# EAGLE library part LAN8700(I) (library smsc)
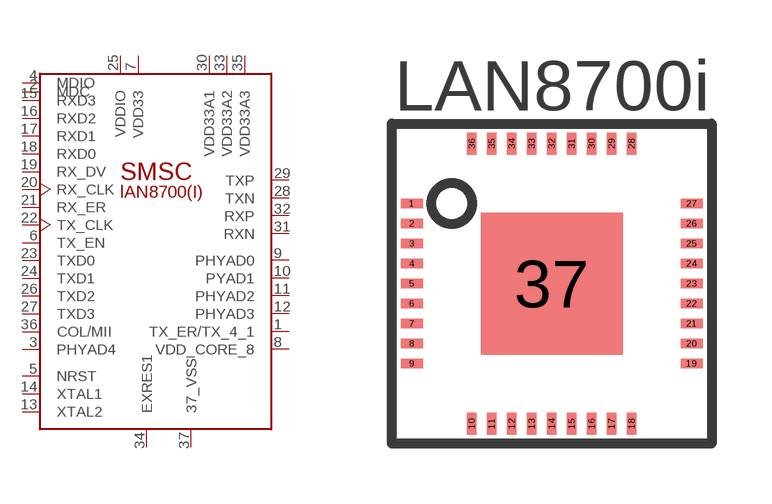
[diagram p1: symbol with the pads of QFN36; footprint QFN36]

Designator prefix -

## LAN8700(I)  [QFN36]
1  TX_ER/TX_4_1
2  MDC  in
3  PHYAD4
4  MDIO
5  NRST  in
6  TX_EN  in
7  VDD33  pwr
8  VDD_CORE_8
9  PHYAD0
10  PYAD1
11  PHYAD2
12  PHYAD3
13  XTAL2  out
14  XTAL1
15  RXD3
16  RXD2
17  RXD1
18  RXD0
19  RX_DV  out
20  RX_CLK
21  RX_ER  out
22  TX_CLK  out
23  TXD0  in
24  TXD1  in
25  VDDIO  pwr
26  TXD2  in
27  TXD3  in
28  TXN
29  TXP
30  VDD33A1  pwr
31  RXN
32  RXP
33  VDD33A2  pwr
34  EXRES1
35  VDD33A3  pwr
36  COL/MII
37  37_VSS  pwr

## Footprint QFN36 (pad centres in mm)
smd 0.55 x 0.24: 1 -3.5,2; 2 -3.5,1.5; 3 -3.5,1; 4 -3.5,0.5; 5 -3.5,0; 6 -3.5,-0.5; 7 -3.5,-1; 8 -3.5,-1.5; 9 -3.5,-2; 19 3.5,-2; 20 3.5,-1.5; 21 3.5,-1; 22 3.5,-0.5; 23 3.5,0; 24 3.5,0.5; 25 3.5,1; 26 3.5,1.5; 27 3.5,2
smd 0.24 x 0.55: 10 -2,-3.5; 11 -1.5,-3.5; 12 -1,-3.5; 13 -0.5,-3.5; 14 0,-3.5; 15 0.5,-3.5; 16 1,-3.5; 17 1.5,-3.5; 18 2,-3.5; 28 2,3.5; 29 1.5,3.5; 30 1,3.5; 31 0.5,3.5; 32 0,3.5; 33 -0.5,3.5; 34 -1,3.5; 35 -1.5,3.5; 36 -2,3.5
smd 3.55 x 3.55: 37 0,0